# Altium footprint library Resistors_GP.PcbLib: 194 footprints (part 7 of 13)
Each footprint in its own frame and in the unit in brackets; x right, y up, seen from the top. Pads: shape width x height; smd on the part's side, far side on the other; paste and mask are expansions set on the pad; w line width, h text height; cw(c..) or ccw(c..) is an arc to the next point about the centre after c.
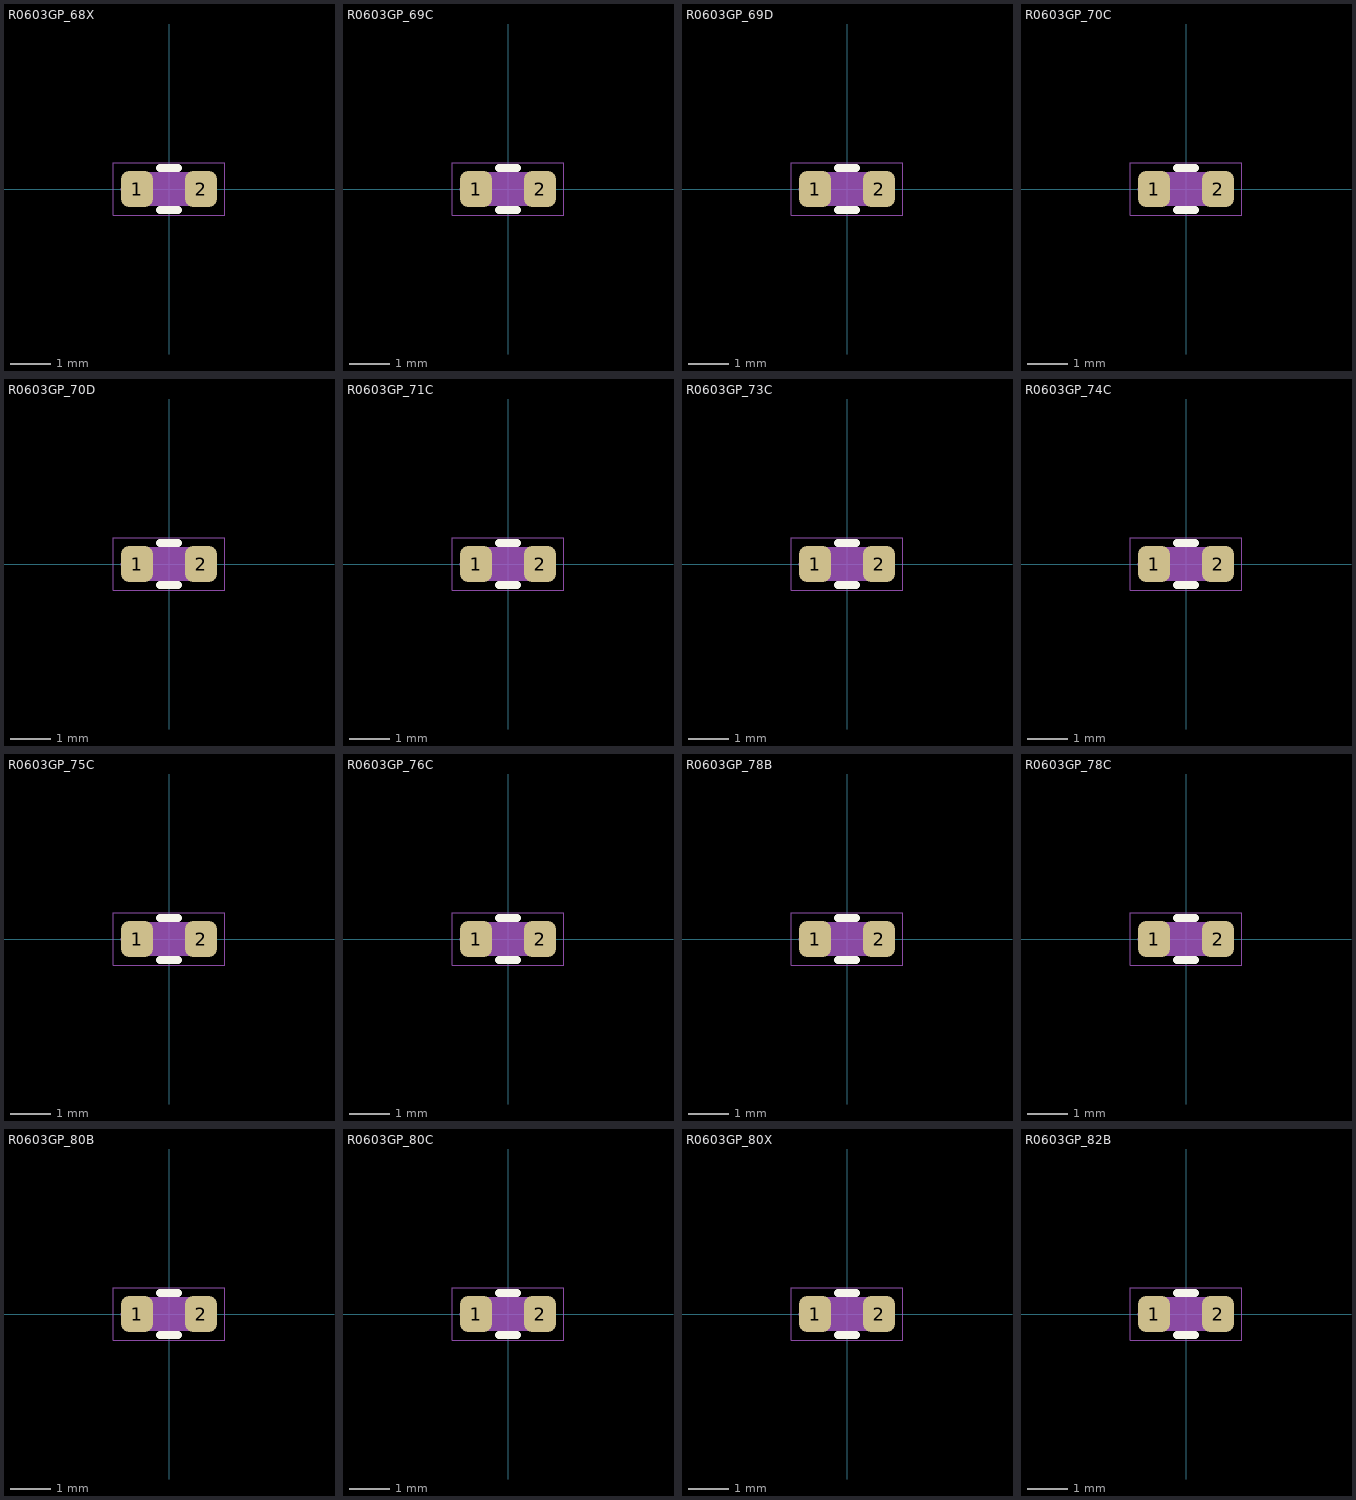
[diagram p6: the footprints below, top view; thin cyan lines are the x and y axes]

## R0603GP_68X [mm] "SMD060316X08MM"
height 0.45
pads (2):
  rrect50% 0.8x0.9 smd mask+0.05: 1(-0.8,0) 2(0.8,0)
Top Overlay:
  lines w0.2: -0.225,-0.525 0.225,-0.525 ; -0.225,0.525 0.225,0.525
Top Courtyard:
  lines w0.025: -1.4,-0.65 1.4,-0.65 1.4,0.65 -1.4,0.65 -1.4,-0.65
Top Assembly:
  lines w0.01: -1.19,-0.025 -1.19,0.025 ; 1.19,-0.025 1.19,0.025
  lines w0.05: -0.549,-0.395 0.549,-0.395 ; -0.549,0.395 0.549,0.395 ; -0.45,-0.395 -0.45,0.395 ; -0.4,-0.395 -0.4,0.395 ; -0.35,-0.395 -0.35,0.395 ; -0.3,-0.395 -0.3,0.395 ; -0.25,-0.395 -0.25,0.395 ; -0.2,-0.395 -0.2,0.395 ; -0.15,-0.395 -0.15,0.395 ; -0.1,-0.395 -0.1,0.395 ; -0.05,-0.395 -0.05,0.395 ; 0,-0.395 0,0.395 ; 0.05,-0.395 0.05,0.395 ; 0.1,-0.395 0.1,0.395 ; 0.15,-0.395 0.15,0.395 ; 0.2,-0.395 0.2,0.395 ; 0.25,-0.395 0.25,0.395 ; 0.3,-0.395 0.3,0.395 ; 0.35,-0.395 0.35,0.395 ; 0.4,-0.395 0.4,0.395 ; 0.45,-0.395 0.45,0.395 ; -0.55,-0.4 ccw(c-2.125,0) -0.55,0.4 ; -0.55,-0.4 -0.8,-0.4 -0.8,0.4 -0.55,0.4 ; -0.55,-0.4 -0.5,-0.4 -0.5,-0.395 -0.5,0.395 -0.5,0.4 -0.55,0.4 ; 0.55,-0.4 cw(c2.125,0) 0.55,0.4 ; 0.55,-0.4 0.8,-0.4 0.8,0.4 0.55,0.4 ; 0.55,-0.4 0.5,-0.4 0.5,-0.395 0.5,0.395 0.5,0.4 0.55,0.4
  text ".Designator" at -1.801,0.669 h0.8
3D body "R0603_BLACK_68X.x_t": height 0.45, standoff 0, extent -0.8,-0.4 0.8,0.4

## R0603GP_69C [mm] "SMD060316X08MM"
height 0.45
pads (2):
  rrect50% 0.8x0.9 smd mask+0.05: 1(-0.8,0) 2(0.8,0)
Top Overlay:
  lines w0.2: -0.225,-0.525 0.225,-0.525 ; -0.225,0.525 0.225,0.525
Top Courtyard:
  lines w0.025: -1.4,-0.65 -1.4,0.65 1.4,0.65 1.4,-0.65 -1.4,-0.65
Top Assembly:
  lines w0.01: -1.19,-0.025 -1.19,0.025 ; 1.19,-0.025 1.19,0.025
  lines w0.05: -0.549,-0.395 0.549,-0.395 ; -0.549,0.395 0.549,0.395 ; -0.45,-0.395 -0.45,0.395 ; -0.4,-0.395 -0.4,0.395 ; -0.35,-0.395 -0.35,0.395 ; -0.3,-0.395 -0.3,0.395 ; -0.25,-0.395 -0.25,0.395 ; -0.2,-0.395 -0.2,0.395 ; -0.15,-0.395 -0.15,0.395 ; -0.1,-0.395 -0.1,0.395 ; -0.05,-0.395 -0.05,0.395 ; 0,-0.395 0,0.395 ; 0.05,-0.395 0.05,0.395 ; 0.1,-0.395 0.1,0.395 ; 0.15,-0.395 0.15,0.395 ; 0.2,-0.395 0.2,0.395 ; 0.25,-0.395 0.25,0.395 ; 0.3,-0.395 0.3,0.395 ; 0.35,-0.395 0.35,0.395 ; 0.4,-0.395 0.4,0.395 ; 0.45,-0.395 0.45,0.395 ; -0.55,-0.4 ccw(c-2.125,0) -0.55,0.4 ; -0.55,-0.4 -0.5,-0.4 -0.5,-0.395 -0.5,0.395 -0.5,0.4 -0.55,0.4 ; -0.55,-0.4 -0.8,-0.4 -0.8,0.4 -0.55,0.4 ; 0.55,-0.4 cw(c2.125,0) 0.55,0.4 ; 0.55,-0.4 0.5,-0.4 0.5,-0.395 0.5,0.395 0.5,0.4 0.55,0.4 ; 0.55,-0.4 0.8,-0.4 0.8,0.4 0.55,0.4
  text ".Designator" at -1.801,0.669 h0.8
3D body "R0603_BLACK_69C.x_t": height 0.45, standoff 0, extent -0.8,-0.4 0.8,0.4

## R0603GP_69D [mm] "SMD060316X08MM"
height 0.45
pads (2):
  rrect50% 0.8x0.9 smd mask+0.05: 1(-0.8,0) 2(0.8,0)
Top Overlay:
  lines w0.2: -0.225,-0.525 0.225,-0.525 ; -0.225,0.525 0.225,0.525
Top Courtyard:
  lines w0.025: -1.4,-0.65 -1.4,0.65 1.4,0.65 1.4,-0.65 -1.4,-0.65
Top Assembly:
  lines w0.01: -1.19,-0.025 -1.19,0.025 ; 1.19,-0.025 1.19,0.025
  lines w0.05: -0.549,-0.395 0.549,-0.395 ; -0.549,0.395 0.549,0.395 ; -0.45,-0.395 -0.45,0.395 ; -0.4,-0.395 -0.4,0.395 ; -0.35,-0.395 -0.35,0.395 ; -0.3,-0.395 -0.3,0.395 ; -0.25,-0.395 -0.25,0.395 ; -0.2,-0.395 -0.2,0.395 ; -0.15,-0.395 -0.15,0.395 ; -0.1,-0.395 -0.1,0.395 ; -0.05,-0.395 -0.05,0.395 ; 0,-0.395 0,0.395 ; 0.05,-0.395 0.05,0.395 ; 0.1,-0.395 0.1,0.395 ; 0.15,-0.395 0.15,0.395 ; 0.2,-0.395 0.2,0.395 ; 0.25,-0.395 0.25,0.395 ; 0.3,-0.395 0.3,0.395 ; 0.35,-0.395 0.35,0.395 ; 0.4,-0.395 0.4,0.395 ; 0.45,-0.395 0.45,0.395 ; -0.55,-0.4 ccw(c-2.125,0) -0.55,0.4 ; -0.55,-0.4 -0.8,-0.4 -0.8,0.4 -0.55,0.4 ; -0.55,-0.4 -0.5,-0.4 -0.5,-0.395 -0.5,0.395 -0.5,0.4 -0.55,0.4 ; 0.55,-0.4 cw(c2.125,0) 0.55,0.4 ; 0.55,-0.4 0.8,-0.4 0.8,0.4 0.55,0.4 ; 0.55,-0.4 0.5,-0.4 0.5,-0.395 0.5,0.395 0.5,0.4 0.55,0.4
  text ".Designator" at -1.801,0.669 h0.8
3D body "R0603_BLACK_69D.x_t": height 0.45, standoff 0, extent -0.8,-0.4 0.8,0.4

## R0603GP_70C [mm] "SMD060316X08MM"
height 0.45
pads (2):
  rrect50% 0.8x0.9 smd mask+0.05: 1(-0.8,0) 2(0.8,0)
Top Overlay:
  lines w0.2: -0.225,-0.525 0.225,-0.525 ; -0.225,0.525 0.225,0.525
Top Courtyard:
  lines w0.025: -1.4,-0.65 -1.4,0.65 1.4,0.65 1.4,-0.65 -1.4,-0.65
Top Assembly:
  lines w0.01: -1.19,-0.025 -1.19,0.025 ; 1.19,-0.025 1.19,0.025
  lines w0.05: -0.549,-0.395 0.549,-0.395 ; -0.549,0.395 0.549,0.395 ; -0.45,-0.395 -0.45,0.395 ; -0.4,-0.395 -0.4,0.395 ; -0.35,-0.395 -0.35,0.395 ; -0.3,-0.395 -0.3,0.395 ; -0.25,-0.395 -0.25,0.395 ; -0.2,-0.395 -0.2,0.395 ; -0.15,-0.395 -0.15,0.395 ; -0.1,-0.395 -0.1,0.395 ; -0.05,-0.395 -0.05,0.395 ; 0,-0.395 0,0.395 ; 0.05,-0.395 0.05,0.395 ; 0.1,-0.395 0.1,0.395 ; 0.15,-0.395 0.15,0.395 ; 0.2,-0.395 0.2,0.395 ; 0.25,-0.395 0.25,0.395 ; 0.3,-0.395 0.3,0.395 ; 0.35,-0.395 0.35,0.395 ; 0.4,-0.395 0.4,0.395 ; 0.45,-0.395 0.45,0.395 ; -0.55,-0.4 ccw(c-2.125,0) -0.55,0.4 ; -0.55,-0.4 -0.5,-0.4 -0.5,-0.395 -0.5,0.395 -0.5,0.4 -0.55,0.4 ; -0.55,-0.4 -0.8,-0.4 -0.8,0.4 -0.55,0.4 ; 0.55,-0.4 cw(c2.125,0) 0.55,0.4 ; 0.55,-0.4 0.5,-0.4 0.5,-0.395 0.5,0.395 0.5,0.4 0.55,0.4 ; 0.55,-0.4 0.8,-0.4 0.8,0.4 0.55,0.4
  text ".Designator" at -1.801,0.669 h0.8
3D body "R0603_BLACK_70C.x_t": height 0.45, standoff 0, extent -0.8,-0.4 0.8,0.4

## R0603GP_70D [mm] "SMD060316X08MM"
height 0.45
pads (2):
  rrect50% 0.8x0.9 smd mask+0.05: 1(-0.8,0) 2(0.8,0)
Top Overlay:
  lines w0.2: -0.225,-0.525 0.225,-0.525 ; -0.225,0.525 0.225,0.525
Top Courtyard:
  lines w0.025: -1.4,-0.65 -1.4,0.65 1.4,0.65 1.4,-0.65 -1.4,-0.65
Top Assembly:
  lines w0.01: -1.19,-0.025 -1.19,0.025 ; 1.19,-0.025 1.19,0.025
  lines w0.05: -0.549,-0.395 0.549,-0.395 ; -0.549,0.395 0.549,0.395 ; -0.45,-0.395 -0.45,0.395 ; -0.4,-0.395 -0.4,0.395 ; -0.35,-0.395 -0.35,0.395 ; -0.3,-0.395 -0.3,0.395 ; -0.25,-0.395 -0.25,0.395 ; -0.2,-0.395 -0.2,0.395 ; -0.15,-0.395 -0.15,0.395 ; -0.1,-0.395 -0.1,0.395 ; -0.05,-0.395 -0.05,0.395 ; 0,-0.395 0,0.395 ; 0.05,-0.395 0.05,0.395 ; 0.1,-0.395 0.1,0.395 ; 0.15,-0.395 0.15,0.395 ; 0.2,-0.395 0.2,0.395 ; 0.25,-0.395 0.25,0.395 ; 0.3,-0.395 0.3,0.395 ; 0.35,-0.395 0.35,0.395 ; 0.4,-0.395 0.4,0.395 ; 0.45,-0.395 0.45,0.395 ; -0.55,-0.4 ccw(c-2.125,0) -0.55,0.4 ; -0.55,-0.4 -0.5,-0.4 -0.5,-0.395 -0.5,0.395 -0.5,0.4 -0.55,0.4 ; -0.55,-0.4 -0.8,-0.4 -0.8,0.4 -0.55,0.4 ; 0.55,-0.4 cw(c2.125,0) 0.55,0.4 ; 0.55,-0.4 0.5,-0.4 0.5,-0.395 0.5,0.395 0.5,0.4 0.55,0.4 ; 0.55,-0.4 0.8,-0.4 0.8,0.4 0.55,0.4
  text ".Designator" at -1.801,0.669 h0.8
3D body "R0603_BLACK_70D.x_t": height 0.45, standoff 0, extent -0.8,-0.4 0.8,0.4

## R0603GP_71C [mm] "SMD060316X08MM"
height 0.45
pads (2):
  rrect50% 0.8x0.9 smd mask+0.05: 1(-0.8,0) 2(0.8,0)
Top Overlay:
  lines w0.2: -0.225,-0.525 0.225,-0.525 ; -0.225,0.525 0.225,0.525
Top Courtyard:
  lines w0.025: -1.4,-0.65 1.4,-0.65 1.4,0.65 -1.4,0.65 -1.4,-0.65
Top Assembly:
  lines w0.01: -1.19,-0.025 -1.19,0.025 ; 1.19,-0.025 1.19,0.025
  lines w0.05: -0.549,-0.395 0.549,-0.395 ; -0.549,0.395 0.549,0.395 ; -0.45,-0.395 -0.45,0.395 ; -0.4,-0.395 -0.4,0.395 ; -0.35,-0.395 -0.35,0.395 ; -0.3,-0.395 -0.3,0.395 ; -0.25,-0.395 -0.25,0.395 ; -0.2,-0.395 -0.2,0.395 ; -0.15,-0.395 -0.15,0.395 ; -0.1,-0.395 -0.1,0.395 ; -0.05,-0.395 -0.05,0.395 ; 0,-0.395 0,0.395 ; 0.05,-0.395 0.05,0.395 ; 0.1,-0.395 0.1,0.395 ; 0.15,-0.395 0.15,0.395 ; 0.2,-0.395 0.2,0.395 ; 0.25,-0.395 0.25,0.395 ; 0.3,-0.395 0.3,0.395 ; 0.35,-0.395 0.35,0.395 ; 0.4,-0.395 0.4,0.395 ; 0.45,-0.395 0.45,0.395 ; -0.55,-0.4 ccw(c-2.125,0) -0.55,0.4 ; -0.55,-0.4 -0.8,-0.4 -0.8,0.4 -0.55,0.4 ; -0.55,-0.4 -0.5,-0.4 -0.5,-0.395 -0.5,0.395 -0.5,0.4 -0.55,0.4 ; 0.55,-0.4 cw(c2.125,0) 0.55,0.4 ; 0.55,-0.4 0.8,-0.4 0.8,0.4 0.55,0.4 ; 0.55,-0.4 0.5,-0.4 0.5,-0.395 0.5,0.395 0.5,0.4 0.55,0.4
  text ".Designator" at -1.801,0.669 h0.8
3D body "R0603_BLACK_71C.x_t": height 0.45, standoff 0, extent -0.8,-0.4 0.8,0.4

## R0603GP_73C [mm] "SMD060316X08MM"
height 0.45
pads (2):
  rrect50% 0.8x0.9 smd mask+0.05: 1(-0.8,0) 2(0.8,0)
Top Overlay:
  lines w0.2: -0.225,-0.525 0.225,-0.525 ; -0.225,0.525 0.225,0.525
Top Courtyard:
  lines w0.025: -1.4,-0.65 1.4,-0.65 1.4,0.65 -1.4,0.65 -1.4,-0.65
Top Assembly:
  lines w0.01: -1.19,-0.025 -1.19,0.025 ; 1.19,-0.025 1.19,0.025
  lines w0.05: -0.549,-0.395 0.549,-0.395 ; -0.549,0.395 0.549,0.395 ; -0.45,-0.395 -0.45,0.395 ; -0.4,-0.395 -0.4,0.395 ; -0.35,-0.395 -0.35,0.395 ; -0.3,-0.395 -0.3,0.395 ; -0.25,-0.395 -0.25,0.395 ; -0.2,-0.395 -0.2,0.395 ; -0.15,-0.395 -0.15,0.395 ; -0.1,-0.395 -0.1,0.395 ; -0.05,-0.395 -0.05,0.395 ; 0,-0.395 0,0.395 ; 0.05,-0.395 0.05,0.395 ; 0.1,-0.395 0.1,0.395 ; 0.15,-0.395 0.15,0.395 ; 0.2,-0.395 0.2,0.395 ; 0.25,-0.395 0.25,0.395 ; 0.3,-0.395 0.3,0.395 ; 0.35,-0.395 0.35,0.395 ; 0.4,-0.395 0.4,0.395 ; 0.45,-0.395 0.45,0.395 ; -0.55,-0.4 ccw(c-2.125,0) -0.55,0.4 ; -0.55,-0.4 -0.8,-0.4 -0.8,0.4 -0.55,0.4 ; -0.55,-0.4 -0.5,-0.4 -0.5,-0.395 -0.5,0.395 -0.5,0.4 -0.55,0.4 ; 0.55,-0.4 cw(c2.125,0) 0.55,0.4 ; 0.55,-0.4 0.8,-0.4 0.8,0.4 0.55,0.4 ; 0.55,-0.4 0.5,-0.4 0.5,-0.395 0.5,0.395 0.5,0.4 0.55,0.4
  text ".Designator" at -1.801,0.669 h0.8
3D body "R0603_BLACK_73C.x_t": height 0.45, standoff 0, extent -0.8,-0.4 0.8,0.4

## R0603GP_74C [mm] "SMD060316X08MM"
height 0.45
pads (2):
  rrect50% 0.8x0.9 smd mask+0.05: 1(-0.8,0) 2(0.8,0)
Top Overlay:
  lines w0.2: -0.225,-0.525 0.225,-0.525 ; -0.225,0.525 0.225,0.525
Top Courtyard:
  lines w0.025: -1.4,-0.65 -1.4,0.65 1.4,0.65 1.4,-0.65 -1.4,-0.65
Top Assembly:
  lines w0.01: -1.19,-0.025 -1.19,0.025 ; 1.19,-0.025 1.19,0.025
  lines w0.05: -0.549,-0.395 0.549,-0.395 ; -0.549,0.395 0.549,0.395 ; -0.45,-0.395 -0.45,0.395 ; -0.4,-0.395 -0.4,0.395 ; -0.35,-0.395 -0.35,0.395 ; -0.3,-0.395 -0.3,0.395 ; -0.25,-0.395 -0.25,0.395 ; -0.2,-0.395 -0.2,0.395 ; -0.15,-0.395 -0.15,0.395 ; -0.1,-0.395 -0.1,0.395 ; -0.05,-0.395 -0.05,0.395 ; 0,-0.395 0,0.395 ; 0.05,-0.395 0.05,0.395 ; 0.1,-0.395 0.1,0.395 ; 0.15,-0.395 0.15,0.395 ; 0.2,-0.395 0.2,0.395 ; 0.25,-0.395 0.25,0.395 ; 0.3,-0.395 0.3,0.395 ; 0.35,-0.395 0.35,0.395 ; 0.4,-0.395 0.4,0.395 ; 0.45,-0.395 0.45,0.395 ; -0.55,-0.4 ccw(c-2.125,0) -0.55,0.4 ; -0.55,-0.4 -0.5,-0.4 -0.5,-0.395 -0.5,0.395 -0.5,0.4 -0.55,0.4 ; -0.55,-0.4 -0.8,-0.4 -0.8,0.4 -0.55,0.4 ; 0.55,-0.4 cw(c2.125,0) 0.55,0.4 ; 0.55,-0.4 0.5,-0.4 0.5,-0.395 0.5,0.395 0.5,0.4 0.55,0.4 ; 0.55,-0.4 0.8,-0.4 0.8,0.4 0.55,0.4
  text ".Designator" at -1.801,0.669 h0.8
3D body "R0603_BLACK_74C.x_t": height 0.45, standoff 0, extent -0.8,-0.4 0.8,0.4

## R0603GP_75C [mm] "SMD060316X08MM"
height 0.45
pads (2):
  rrect50% 0.8x0.9 smd mask+0.05: 1(-0.8,0) 2(0.8,0)
Top Overlay:
  lines w0.2: -0.225,-0.525 0.225,-0.525 ; -0.225,0.525 0.225,0.525
Top Courtyard:
  lines w0.025: -1.4,-0.65 -1.4,0.65 1.4,0.65 1.4,-0.65 -1.4,-0.65
Top Assembly:
  lines w0.01: -1.19,-0.025 -1.19,0.025 ; 1.19,-0.025 1.19,0.025
  lines w0.05: -0.549,-0.395 0.549,-0.395 ; -0.549,0.395 0.549,0.395 ; -0.45,-0.395 -0.45,0.395 ; -0.4,-0.395 -0.4,0.395 ; -0.35,-0.395 -0.35,0.395 ; -0.3,-0.395 -0.3,0.395 ; -0.25,-0.395 -0.25,0.395 ; -0.2,-0.395 -0.2,0.395 ; -0.15,-0.395 -0.15,0.395 ; -0.1,-0.395 -0.1,0.395 ; -0.05,-0.395 -0.05,0.395 ; 0,-0.395 0,0.395 ; 0.05,-0.395 0.05,0.395 ; 0.1,-0.395 0.1,0.395 ; 0.15,-0.395 0.15,0.395 ; 0.2,-0.395 0.2,0.395 ; 0.25,-0.395 0.25,0.395 ; 0.3,-0.395 0.3,0.395 ; 0.35,-0.395 0.35,0.395 ; 0.4,-0.395 0.4,0.395 ; 0.45,-0.395 0.45,0.395 ; -0.55,-0.4 ccw(c-2.125,0) -0.55,0.4 ; -0.55,-0.4 -0.5,-0.4 -0.5,-0.395 -0.5,0.395 -0.5,0.4 -0.55,0.4 ; -0.55,-0.4 -0.8,-0.4 -0.8,0.4 -0.55,0.4 ; 0.55,-0.4 cw(c2.125,0) 0.55,0.4 ; 0.55,-0.4 0.5,-0.4 0.5,-0.395 0.5,0.395 0.5,0.4 0.55,0.4 ; 0.55,-0.4 0.8,-0.4 0.8,0.4 0.55,0.4
  text ".Designator" at -1.801,0.669 h0.8
3D body "R0603_BLACK_75C.x_t": height 0.45, standoff 0, extent -0.8,-0.4 0.8,0.4

## R0603GP_76C [mm] "SMD060316X08MM"
height 0.45
pads (2):
  rrect50% 0.8x0.9 smd mask+0.05: 1(-0.8,0) 2(0.8,0)
Top Overlay:
  lines w0.2: -0.225,-0.525 0.225,-0.525 ; -0.225,0.525 0.225,0.525
Top Courtyard:
  lines w0.025: -1.4,-0.65 -1.4,0.65 1.4,0.65 1.4,-0.65 -1.4,-0.65
Top Assembly:
  lines w0.01: -1.19,-0.025 -1.19,0.025 ; 1.19,-0.025 1.19,0.025
  lines w0.05: -0.549,-0.395 0.549,-0.395 ; -0.549,0.395 0.549,0.395 ; -0.45,-0.395 -0.45,0.395 ; -0.4,-0.395 -0.4,0.395 ; -0.35,-0.395 -0.35,0.395 ; -0.3,-0.395 -0.3,0.395 ; -0.25,-0.395 -0.25,0.395 ; -0.2,-0.395 -0.2,0.395 ; -0.15,-0.395 -0.15,0.395 ; -0.1,-0.395 -0.1,0.395 ; -0.05,-0.395 -0.05,0.395 ; 0,-0.395 0,0.395 ; 0.05,-0.395 0.05,0.395 ; 0.1,-0.395 0.1,0.395 ; 0.15,-0.395 0.15,0.395 ; 0.2,-0.395 0.2,0.395 ; 0.25,-0.395 0.25,0.395 ; 0.3,-0.395 0.3,0.395 ; 0.35,-0.395 0.35,0.395 ; 0.4,-0.395 0.4,0.395 ; 0.45,-0.395 0.45,0.395 ; -0.55,-0.4 ccw(c-2.125,0) -0.55,0.4 ; -0.55,-0.4 -0.5,-0.4 -0.5,-0.395 -0.5,0.395 -0.5,0.4 -0.55,0.4 ; -0.55,-0.4 -0.8,-0.4 -0.8,0.4 -0.55,0.4 ; 0.55,-0.4 cw(c2.125,0) 0.55,0.4 ; 0.55,-0.4 0.5,-0.4 0.5,-0.395 0.5,0.395 0.5,0.4 0.55,0.4 ; 0.55,-0.4 0.8,-0.4 0.8,0.4 0.55,0.4
  text ".Designator" at -1.801,0.669 h0.8
3D body "R0603_BLACK_76C.x_t": height 0.45, standoff 0, extent -0.8,-0.4 0.8,0.4

## R0603GP_78B [mm] "SMD060316X08MM"
height 0.45
pads (2):
  rrect50% 0.8x0.9 smd mask+0.05: 1(-0.8,0) 2(0.8,0)
Top Overlay:
  lines w0.2: -0.225,-0.525 0.225,-0.525 ; -0.225,0.525 0.225,0.525
Top Courtyard:
  lines w0.025: -1.4,-0.65 1.4,-0.65 1.4,0.65 -1.4,0.65 -1.4,-0.65
Top Assembly:
  lines w0.01: -1.19,-0.025 -1.19,0.025 ; 1.19,-0.025 1.19,0.025
  lines w0.05: -0.549,-0.395 0.549,-0.395 ; -0.549,0.395 0.549,0.395 ; -0.45,-0.395 -0.45,0.395 ; -0.4,-0.395 -0.4,0.395 ; -0.35,-0.395 -0.35,0.395 ; -0.3,-0.395 -0.3,0.395 ; -0.25,-0.395 -0.25,0.395 ; -0.2,-0.395 -0.2,0.395 ; -0.15,-0.395 -0.15,0.395 ; -0.1,-0.395 -0.1,0.395 ; -0.05,-0.395 -0.05,0.395 ; 0,-0.395 0,0.395 ; 0.05,-0.395 0.05,0.395 ; 0.1,-0.395 0.1,0.395 ; 0.15,-0.395 0.15,0.395 ; 0.2,-0.395 0.2,0.395 ; 0.25,-0.395 0.25,0.395 ; 0.3,-0.395 0.3,0.395 ; 0.35,-0.395 0.35,0.395 ; 0.4,-0.395 0.4,0.395 ; 0.45,-0.395 0.45,0.395 ; -0.55,-0.4 ccw(c-2.125,0) -0.55,0.4 ; -0.55,-0.4 -0.8,-0.4 -0.8,0.4 -0.55,0.4 ; -0.55,-0.4 -0.5,-0.4 -0.5,-0.395 -0.5,0.395 -0.5,0.4 -0.55,0.4 ; 0.55,-0.4 cw(c2.125,0) 0.55,0.4 ; 0.55,-0.4 0.8,-0.4 0.8,0.4 0.55,0.4 ; 0.55,-0.4 0.5,-0.4 0.5,-0.395 0.5,0.395 0.5,0.4 0.55,0.4
  text ".Designator" at -1.801,0.669 h0.8
3D body "R0603_BLACK_78B.x_t": height 0.45, standoff 0, extent -0.8,-0.4 0.8,0.4

## R0603GP_78C [mm] "SMD060316X08MM"
height 0.45
pads (2):
  rrect50% 0.8x0.9 smd mask+0.05: 1(-0.8,0) 2(0.8,0)
Top Overlay:
  lines w0.2: -0.225,-0.525 0.225,-0.525 ; -0.225,0.525 0.225,0.525
Top Courtyard:
  lines w0.025: -1.4,-0.65 1.4,-0.65 1.4,0.65 -1.4,0.65 -1.4,-0.65
Top Assembly:
  lines w0.01: -1.19,-0.025 -1.19,0.025 ; 1.19,-0.025 1.19,0.025
  lines w0.05: -0.549,-0.395 0.549,-0.395 ; -0.549,0.395 0.549,0.395 ; -0.45,-0.395 -0.45,0.395 ; -0.4,-0.395 -0.4,0.395 ; -0.35,-0.395 -0.35,0.395 ; -0.3,-0.395 -0.3,0.395 ; -0.25,-0.395 -0.25,0.395 ; -0.2,-0.395 -0.2,0.395 ; -0.15,-0.395 -0.15,0.395 ; -0.1,-0.395 -0.1,0.395 ; -0.05,-0.395 -0.05,0.395 ; 0,-0.395 0,0.395 ; 0.05,-0.395 0.05,0.395 ; 0.1,-0.395 0.1,0.395 ; 0.15,-0.395 0.15,0.395 ; 0.2,-0.395 0.2,0.395 ; 0.25,-0.395 0.25,0.395 ; 0.3,-0.395 0.3,0.395 ; 0.35,-0.395 0.35,0.395 ; 0.4,-0.395 0.4,0.395 ; 0.45,-0.395 0.45,0.395 ; -0.55,-0.4 ccw(c-2.125,0) -0.55,0.4 ; -0.55,-0.4 -0.5,-0.4 -0.5,-0.395 -0.5,0.395 -0.5,0.4 -0.55,0.4 ; -0.55,-0.4 -0.8,-0.4 -0.8,0.4 -0.55,0.4 ; 0.55,-0.4 cw(c2.125,0) 0.55,0.4 ; 0.55,-0.4 0.5,-0.4 0.5,-0.395 0.5,0.395 0.5,0.4 0.55,0.4 ; 0.55,-0.4 0.8,-0.4 0.8,0.4 0.55,0.4
  text ".Designator" at -1.801,0.669 h0.8
3D body "R0603_BLACK_78C.x_t": height 0.45, standoff 0, extent -0.8,-0.4 0.8,0.4

## R0603GP_80B [mm] "SMD060316X08MM"
height 0.45
pads (2):
  rrect50% 0.8x0.9 smd mask+0.05: 1(-0.8,0) 2(0.8,0)
Top Overlay:
  lines w0.2: -0.225,-0.525 0.225,-0.525 ; -0.225,0.525 0.225,0.525
Top Courtyard:
  lines w0.025: -1.4,-0.65 -1.4,0.65 1.4,0.65 1.4,-0.65 -1.4,-0.65
Top Assembly:
  lines w0.01: -1.19,-0.025 -1.19,0.025 ; 1.19,-0.025 1.19,0.025
  lines w0.05: -0.549,-0.395 0.549,-0.395 ; -0.549,0.395 0.549,0.395 ; -0.45,-0.395 -0.45,0.395 ; -0.4,-0.395 -0.4,0.395 ; -0.35,-0.395 -0.35,0.395 ; -0.3,-0.395 -0.3,0.395 ; -0.25,-0.395 -0.25,0.395 ; -0.2,-0.395 -0.2,0.395 ; -0.15,-0.395 -0.15,0.395 ; -0.1,-0.395 -0.1,0.395 ; -0.05,-0.395 -0.05,0.395 ; 0,-0.395 0,0.395 ; 0.05,-0.395 0.05,0.395 ; 0.1,-0.395 0.1,0.395 ; 0.15,-0.395 0.15,0.395 ; 0.2,-0.395 0.2,0.395 ; 0.25,-0.395 0.25,0.395 ; 0.3,-0.395 0.3,0.395 ; 0.35,-0.395 0.35,0.395 ; 0.4,-0.395 0.4,0.395 ; 0.45,-0.395 0.45,0.395 ; -0.55,-0.4 ccw(c-2.125,0) -0.55,0.4 ; -0.55,-0.4 -0.5,-0.4 -0.5,-0.395 -0.5,0.395 -0.5,0.4 -0.55,0.4 ; -0.55,-0.4 -0.8,-0.4 -0.8,0.4 -0.55,0.4 ; 0.55,-0.4 cw(c2.125,0) 0.55,0.4 ; 0.55,-0.4 0.5,-0.4 0.5,-0.395 0.5,0.395 0.5,0.4 0.55,0.4 ; 0.55,-0.4 0.8,-0.4 0.8,0.4 0.55,0.4
  text ".Designator" at -1.801,0.669 h0.8
3D body "R0603_BLACK_80B.x_t": height 0.45, standoff 0, extent -0.8,-0.4 0.8,0.4

## R0603GP_80C [mm] "SMD060316X08MM"
height 0.45
pads (2):
  rrect50% 0.8x0.9 smd mask+0.05: 1(-0.8,0) 2(0.8,0)
Top Overlay:
  lines w0.2: -0.225,-0.525 0.225,-0.525 ; -0.225,0.525 0.225,0.525
Top Courtyard:
  lines w0.025: -1.4,-0.65 1.4,-0.65 1.4,0.65 -1.4,0.65 -1.4,-0.65
Top Assembly:
  lines w0.01: -1.19,-0.025 -1.19,0.025 ; 1.19,-0.025 1.19,0.025
  lines w0.05: -0.549,-0.395 0.549,-0.395 ; -0.549,0.395 0.549,0.395 ; -0.45,-0.395 -0.45,0.395 ; -0.4,-0.395 -0.4,0.395 ; -0.35,-0.395 -0.35,0.395 ; -0.3,-0.395 -0.3,0.395 ; -0.25,-0.395 -0.25,0.395 ; -0.2,-0.395 -0.2,0.395 ; -0.15,-0.395 -0.15,0.395 ; -0.1,-0.395 -0.1,0.395 ; -0.05,-0.395 -0.05,0.395 ; 0,-0.395 0,0.395 ; 0.05,-0.395 0.05,0.395 ; 0.1,-0.395 0.1,0.395 ; 0.15,-0.395 0.15,0.395 ; 0.2,-0.395 0.2,0.395 ; 0.25,-0.395 0.25,0.395 ; 0.3,-0.395 0.3,0.395 ; 0.35,-0.395 0.35,0.395 ; 0.4,-0.395 0.4,0.395 ; 0.45,-0.395 0.45,0.395 ; -0.55,-0.4 ccw(c-2.125,0) -0.55,0.4 ; -0.55,-0.4 -0.8,-0.4 -0.8,0.4 -0.55,0.4 ; -0.55,-0.4 -0.5,-0.4 -0.5,-0.395 -0.5,0.395 -0.5,0.4 -0.55,0.4 ; 0.55,-0.4 cw(c2.125,0) 0.55,0.4 ; 0.55,-0.4 0.8,-0.4 0.8,0.4 0.55,0.4 ; 0.55,-0.4 0.5,-0.4 0.5,-0.395 0.5,0.395 0.5,0.4 0.55,0.4
  text ".Designator" at -1.801,0.669 h0.8
3D body "R0603_BLACK_80C.x_t": height 0.45, standoff 0, extent -0.8,-0.4 0.8,0.4

## R0603GP_80X [mm] "SMD060316X08MM"
height 0.45
pads (2):
  rrect50% 0.8x0.9 smd mask+0.05: 1(-0.8,0) 2(0.8,0)
Top Overlay:
  lines w0.2: -0.225,-0.525 0.225,-0.525 ; -0.225,0.525 0.225,0.525
Top Courtyard:
  lines w0.025: -1.4,-0.65 1.4,-0.65 1.4,0.65 -1.4,0.65 -1.4,-0.65
Top Assembly:
  lines w0.01: -1.19,-0.025 -1.19,0.025 ; 1.19,-0.025 1.19,0.025
  lines w0.05: -0.549,-0.395 0.549,-0.395 ; -0.549,0.395 0.549,0.395 ; -0.45,-0.395 -0.45,0.395 ; -0.4,-0.395 -0.4,0.395 ; -0.35,-0.395 -0.35,0.395 ; -0.3,-0.395 -0.3,0.395 ; -0.25,-0.395 -0.25,0.395 ; -0.2,-0.395 -0.2,0.395 ; -0.15,-0.395 -0.15,0.395 ; -0.1,-0.395 -0.1,0.395 ; -0.05,-0.395 -0.05,0.395 ; 0,-0.395 0,0.395 ; 0.05,-0.395 0.05,0.395 ; 0.1,-0.395 0.1,0.395 ; 0.15,-0.395 0.15,0.395 ; 0.2,-0.395 0.2,0.395 ; 0.25,-0.395 0.25,0.395 ; 0.3,-0.395 0.3,0.395 ; 0.35,-0.395 0.35,0.395 ; 0.4,-0.395 0.4,0.395 ; 0.45,-0.395 0.45,0.395 ; -0.55,-0.4 ccw(c-2.125,0) -0.55,0.4 ; -0.55,-0.4 -0.8,-0.4 -0.8,0.4 -0.55,0.4 ; -0.55,-0.4 -0.5,-0.4 -0.5,-0.395 -0.5,0.395 -0.5,0.4 -0.55,0.4 ; 0.55,-0.4 cw(c2.125,0) 0.55,0.4 ; 0.55,-0.4 0.8,-0.4 0.8,0.4 0.55,0.4 ; 0.55,-0.4 0.5,-0.4 0.5,-0.395 0.5,0.395 0.5,0.4 0.55,0.4
  text ".Designator" at -1.801,0.669 h0.8
3D body "R0603_BLACK_80X.x_t": height 0.45, standoff 0, extent -0.8,-0.4 0.8,0.4

## R0603GP_82B [mm] "SMD060316X08MM"
height 0.45
pads (2):
  rrect50% 0.8x0.9 smd mask+0.05: 1(-0.8,0) 2(0.8,0)
Top Overlay:
  lines w0.2: -0.225,-0.525 0.225,-0.525 ; -0.225,0.525 0.225,0.525
Top Courtyard:
  lines w0.025: -1.4,-0.65 -1.4,0.65 1.4,0.65 1.4,-0.65 -1.4,-0.65
Top Assembly:
  lines w0.01: -1.19,-0.025 -1.19,0.025 ; 1.19,-0.025 1.19,0.025
  lines w0.05: -0.549,-0.395 0.549,-0.395 ; -0.549,0.395 0.549,0.395 ; -0.45,-0.395 -0.45,0.395 ; -0.4,-0.395 -0.4,0.395 ; -0.35,-0.395 -0.35,0.395 ; -0.3,-0.395 -0.3,0.395 ; -0.25,-0.395 -0.25,0.395 ; -0.2,-0.395 -0.2,0.395 ; -0.15,-0.395 -0.15,0.395 ; -0.1,-0.395 -0.1,0.395 ; -0.05,-0.395 -0.05,0.395 ; 0,-0.395 0,0.395 ; 0.05,-0.395 0.05,0.395 ; 0.1,-0.395 0.1,0.395 ; 0.15,-0.395 0.15,0.395 ; 0.2,-0.395 0.2,0.395 ; 0.25,-0.395 0.25,0.395 ; 0.3,-0.395 0.3,0.395 ; 0.35,-0.395 0.35,0.395 ; 0.4,-0.395 0.4,0.395 ; 0.45,-0.395 0.45,0.395 ; -0.55,-0.4 ccw(c-2.125,0) -0.55,0.4 ; -0.55,-0.4 -0.5,-0.4 -0.5,-0.395 -0.5,0.395 -0.5,0.4 -0.55,0.4 ; -0.55,-0.4 -0.8,-0.4 -0.8,0.4 -0.55,0.4 ; 0.55,-0.4 cw(c2.125,0) 0.55,0.4 ; 0.55,-0.4 0.5,-0.4 0.5,-0.395 0.5,0.395 0.5,0.4 0.55,0.4 ; 0.55,-0.4 0.8,-0.4 0.8,0.4 0.55,0.4
  text ".Designator" at -1.801,0.669 h0.8
3D body "R0603_BLACK_82B.x_t": height 0.45, standoff 0, extent -0.8,-0.4 0.8,0.4